# EAGLE library part EMI_SHIELD_1.156X0.728 (library Laird Technologies)
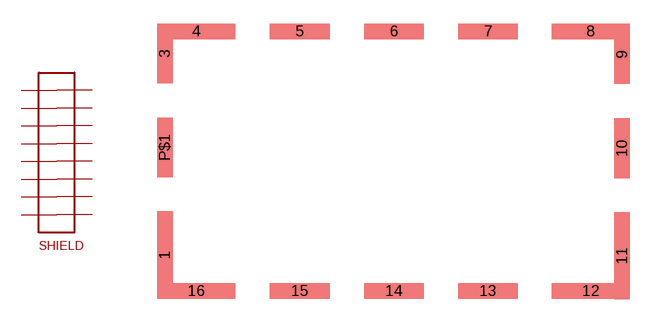
[diagram p1: symbol with the pads of BMI-S-209; footprint BMI-S-209]

Designator prefix -

## EMI_SHIELD_1.156X0.728  [BMI-S-209]
1  P$1
3  P$2
4  P$3
5  P$4
6  P$5
7  P$6
8  P$11
9  P$12
10  P$17
11  P$18
12  P$19
13  P$20
14  P$21
15  P$22
16  P$23
P$1  P$24

## Footprint BMI-S-209 (pad centres in mm)
smd 1 x 5.55: 1 -14.4,-6.15; 11 14.75,-6.2
smd 1 x 3.8: 3 -14.4,6.7; 9 14.75,6.65; 10 14.75,0.65; P$1 -14.4,0.7
smd 5 x 1: 4 -12.4,8.1; 8 12.75,8.1; 12 12.75,-8.45; 16 -12.4,-8.45
smd 3.8 x 1: 5 -5.8,8.1; 6 0.2,8.1; 7 6.2,8.1; 13 6.2,-8.45; 14 0.2,-8.45; 15 -5.8,-8.45